# Altium schematic symbol library ICSP_PinHeader.SchLib: 1 symbol
Pins are listed as number, name and electrical type; pins without a type are passive.

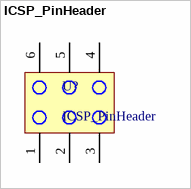
[diagram p0: symbol ICSP_PinHeader]

## ICSP_PinHeader
designator U?
Manufacturer: TE Connectivity AMP Connectors; Manufacturer Part Number: 4-103321-0; Supplier: DigiKey; Supplier Part Number: A26520-ND
footprint Edge Connector
pins: 1, 2, 3, 4 6, 5, 6 4